# Altium schematic symbol library FL2500188.SchLib: 1 symbol
Pins are listed as number, name and electrical type; pins without a type are passive.

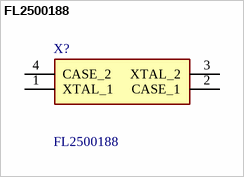
[diagram p0: symbol FL2500188]

## FL2500188
designator X?
25 MHz +/-10ppm Crystal 8pF 40 Ohms 4-SMD, No Lead; Manufacturer_Name: Diodes Incorporated; Geometry.Height: 0.78mm; Mouser Part Number: *; Mouser Price/Stock: *; Manufacturer_Part_Number: FL2500188; Datasheet Link: https://www.diodes.com/assets/Datasheets/FL.pdf
footprint FL2500188
pins: 1 XTAL_1, 2 CASE_1, 3 XTAL_2, 4 CASE_2